# Altium schematic symbol library Schlib_WCH.SchLib: 17 symbols
Pins are listed as number, name and electrical type; pins without a type are passive.

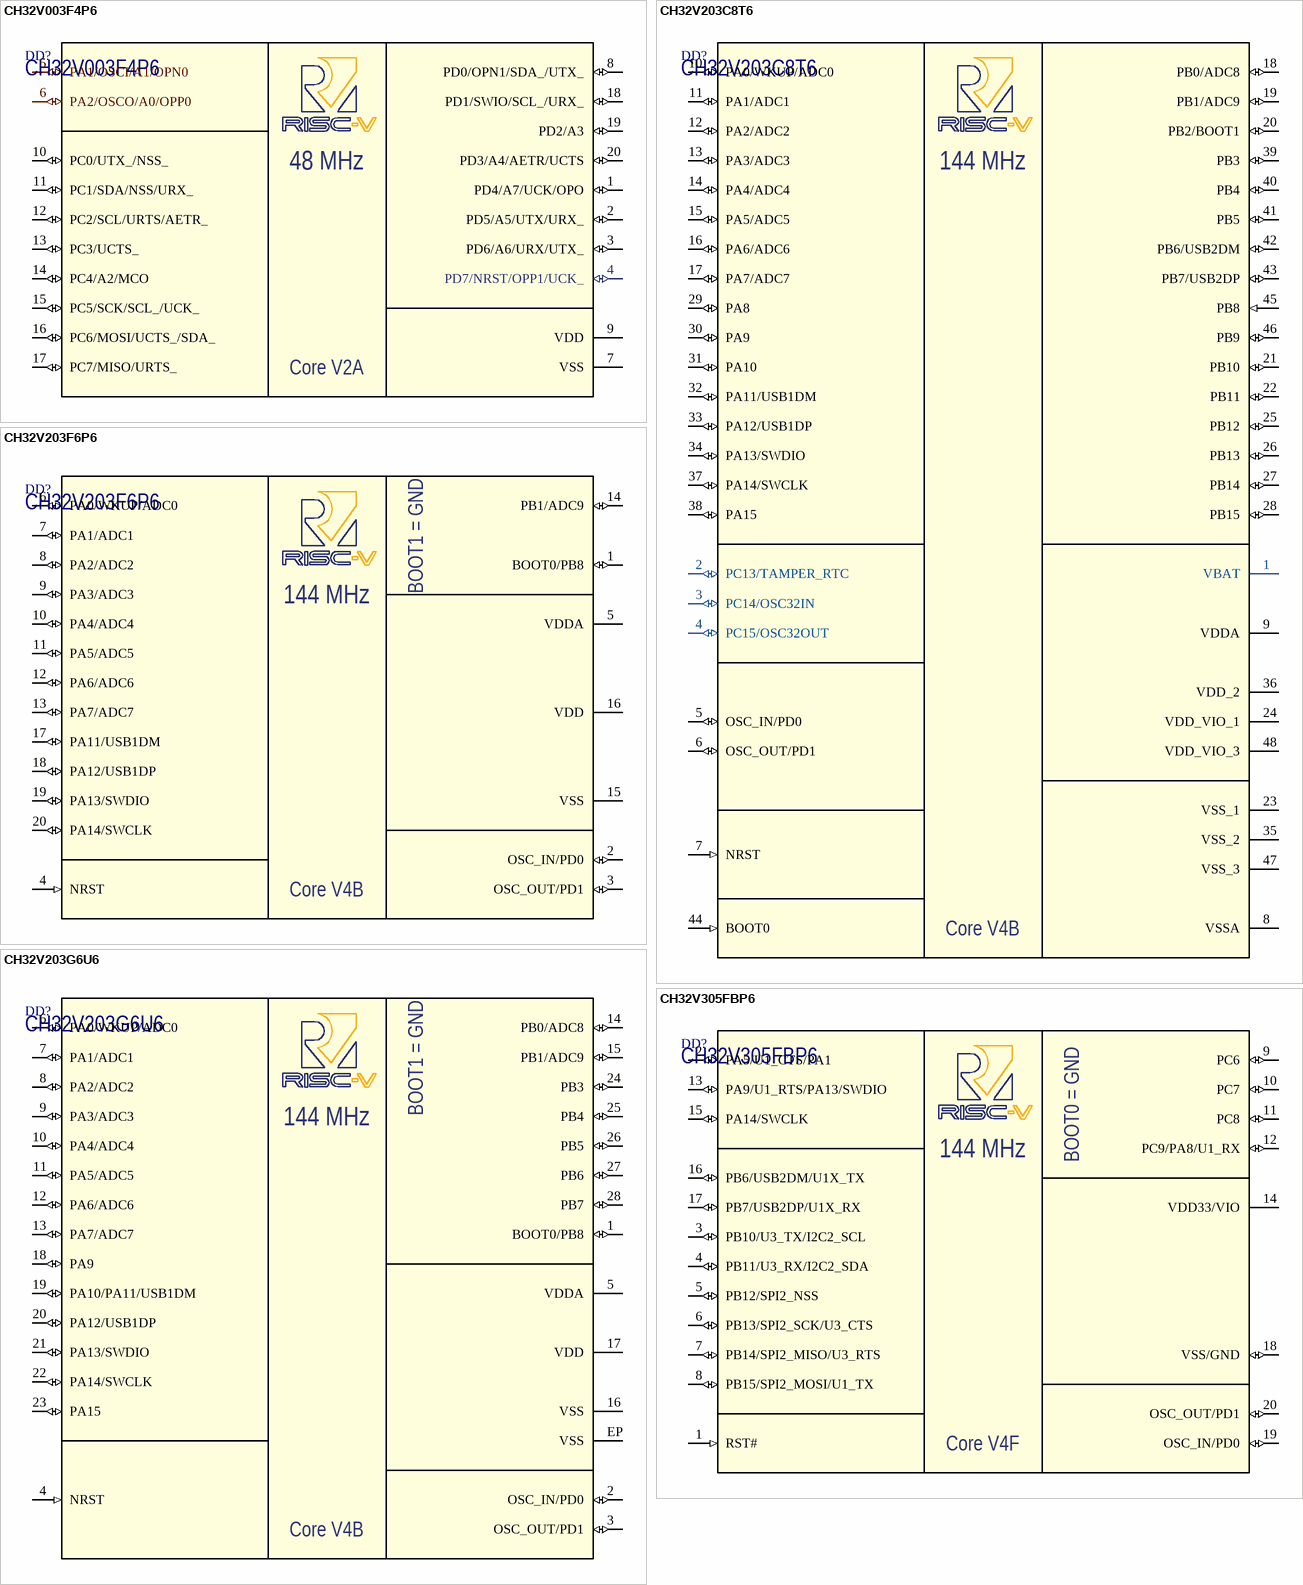
[diagram p0: symbols CH32V003F4P6 to CH32V305FBP6]

## CH32V003F4P6
designator DD?
RISC-V MCU 48MHz with 16KB flash, 2KB RAM; Manufacturer: WinChipHead; Package: TSSOP-20; Part Number: CH32V003F4P6
footprint TSSOP-20 (TSOP, 20-Leads, Body 6.50x4.40mm, Pitch 0.65mm, IPC Medium Density)
pins: 1 PD4/A7/UCK/OPO (io), 2 PD5/A5/UTX/URX_ (io), 3 PD6/A6/URX/UTX_ (io), 4 PD7/NRST/OPP1/UCK_ (io), 5 PA1/OSCI/A1/OPN0 (io), 6 PA2/OSCO/A0/OPP0 (io), 7 VSS (power), 8 PD0/OPN1/SDA_/UTX_ (io), 9 VDD (power), 10 PC0/UTX_/NSS_ (io), 11 PC1/SDA/NSS/URX_ (io), 12 PC2/SCL/URTS/AETR_ (io), 13 PC3/UCTS_ (io), 14 PC4/A2/MCO (io), 15 PC5/SCK/SCL_/UCK_ (io), 16 PC6/MOSI/UCTS_/SDA_ (io), 17 PC7/MISO/URTS_ (io), 18 PD1/SWIO/SCL_/URX_ (io), 19 PD2/A3 (io), 20 PD3/A4/AETR/UCTS (io)
text: 48 MHz; Core V2A

## CH32V203C8T6
designator DD?
RISC-V MCU 144MHz with 64KB flash, 20KB RAM; Manufacturer: WinChipHead; Package: LQFP-48; Part Number: CH32V203C8T6
footprint LQFP-48 (TSQFP, 48-Leads, Body 7,00x7,00mm, Pitch 0,50mm, IPC Medium Density)
pins: 1 VBAT (power), 2 PC13/TAMPER_RTC (io), 3 PC14/OSC32IN (io), 4 PC15/OSC32OUT (io), 5 OSC_IN/PD0 (io), 6 OSC_OUT/PD1 (io), 7 NRST (in), 8 VSSA (power), 9 VDDA (power), 10 PA0/WKUP/ADC0 (io), 11 PA1/ADC1 (io), 12 PA2/ADC2 (io), 13 PA3/ADC3 (io), 14 PA4/ADC4 (io), 15 PA5/ADC5 (io), 16 PA6/ADC6 (io), 17 PA7/ADC7 (io), 18 PB0/ADC8 (io), 19 PB1/ADC9 (io), 20 PB2/BOOT1 (io), 21 PB10 (io), 22 PB11 (io), 23 VSS_1 (power), 24 VDD_VIO_1 (power), 25 PB12 (io), 26 PB13 (io), 27 PB14 (io), 28 PB15 (io), 29 PA8 (io), 30 PA9 (io), 31 PA10 (io), 32 PA11/USB1DM (io), 33 PA12/USB1DP (io), 34 PA13/SWDIO (io), 35 VSS_2 (power), 36 VDD_2 (power), 37 PA14/SWCLK (io), 38 PA15 (io), 39 PB3 (io), 40 PB4 (io), 41 PB5 (io), 42 PB6/USB2DM (io), 43 PB7/USB2DP (io), 44 BOOT0 (in), 45 PB8 (in), 46 PB9 (io), 47 VSS_3 (power), 48 VDD_VIO_3 (power)
text: 144 MHz; Core V4B

## CH32V203F6P6
designator DD?
RISC-V MCU 144MHz with 32KB flash, 10KB RAM; Manufacturer: WinChipHead; Package: TSSOP-20; Part Number: CH32V203F6P6
footprint TSSOP-20 (TSOP, 20-Leads, Body 6.50x4.40mm, Pitch 0.65mm, IPC Medium Density)
pins: 1 BOOT0/PB8 (io), 2 OSC_IN/PD0 (io), 3 OSC_OUT/PD1 (io), 4 NRST (in), 5 VDDA (power), 6 PA0/WKUP/ADC0 (io), 7 PA1/ADC1 (io), 8 PA2/ADC2 (io), 9 PA3/ADC3 (io), 10 PA4/ADC4 (io), 11 PA5/ADC5 (io), 12 PA6/ADC6 (io), 13 PA7/ADC7 (io), 14 PB1/ADC9 (io), 15 VSS (power), 16 VDD (power), 17 PA11/USB1DM (io), 18 PA12/USB1DP (io), 19 PA13/SWDIO (io), 20 PA14/SWCLK (io)
text: BOOT1 = GND; 144 MHz; Core V4B

## CH32V203G6U6
designator DD?
RISC-V MCU 144MHz with 32KB flash, 10KB RAM; Manufacturer: WinChipHead; Package: QFN-28; Part Number: CH32V203G6U6
footprint QFN28_WCH (QFN 4mm x 4mm, 0.4mm pitch)
pins: 1 BOOT0/PB8 (io), 2 OSC_IN/PD0 (io), 3 OSC_OUT/PD1 (io), 4 NRST (in), 5 VDDA (power), 6 PA0/WKUP/ADC0 (io), 7 PA1/ADC1 (io), 8 PA2/ADC2 (io), 9 PA3/ADC3 (io), 10 PA4/ADC4 (io), 11 PA5/ADC5 (io), 12 PA6/ADC6 (io), 13 PA7/ADC7 (io), 14 PB0/ADC8 (io), 15 PB1/ADC9 (io), 16 VSS (power), 17 VDD (power), 18 PA9 (io), 19 PA10/PA11/USB1DM (io), 20 PA12/USB1DP (io), 21 PA13/SWDIO (io), 22 PA14/SWCLK (io), 23 PA15 (io), 24 PB3 (io), 25 PB4 (io), 26 PB5 (io), 27 PB6 (io), 28 PB7 (io), EP VSS (power)
text: BOOT1 = GND; 144 MHz; Core V4B

## CH32V305FBP6
designator DD?
RISC-V MCU 144MHz with 128KB flash, 32KB RAM; Manufacturer: WinChipHead; Package: TSSOP-20; Part Number: CH32V305FBP6
footprint TSSOP-20 (TSOP, 20-Leads, Body 6.50x4.40mm, Pitch 0.65mm, IPC Medium Density)
pins: 1 RST# (in), 2 PA5/U1_CTS/PA1 (io), 3 PB10/U3_TX/I2C2_SCL (io), 4 PB11/U3_RX/I2C2_SDA (io), 5 PB12/SPI2_NSS (io), 6 PB13/SPI2_SCK/U3_CTS (io), 7 PB14/SPI2_MISO/U3_RTS (io), 8 PB15/SPI2_MOSI/U1_TX (io), 9 PC6 (io), 10 PC7 (io), 11 PC8 (io), 12 PC9/PA8/U1_RX (io), 13 PA9/U1_RTS/PA13/SWDIO (io), 14 VDD33/VIO (power), 15 PA14/SWCLK (io), 16 PB6/USB2DM/U1X_TX (io), 17 PB7/USB2DP/U1X_RX (io), 18 VSS/GND (io), 19 OSC_IN/PD0 (io), 20 OSC_OUT/PD1 (io)
text: BOOT0 = GND; 144 MHz; Core V4F

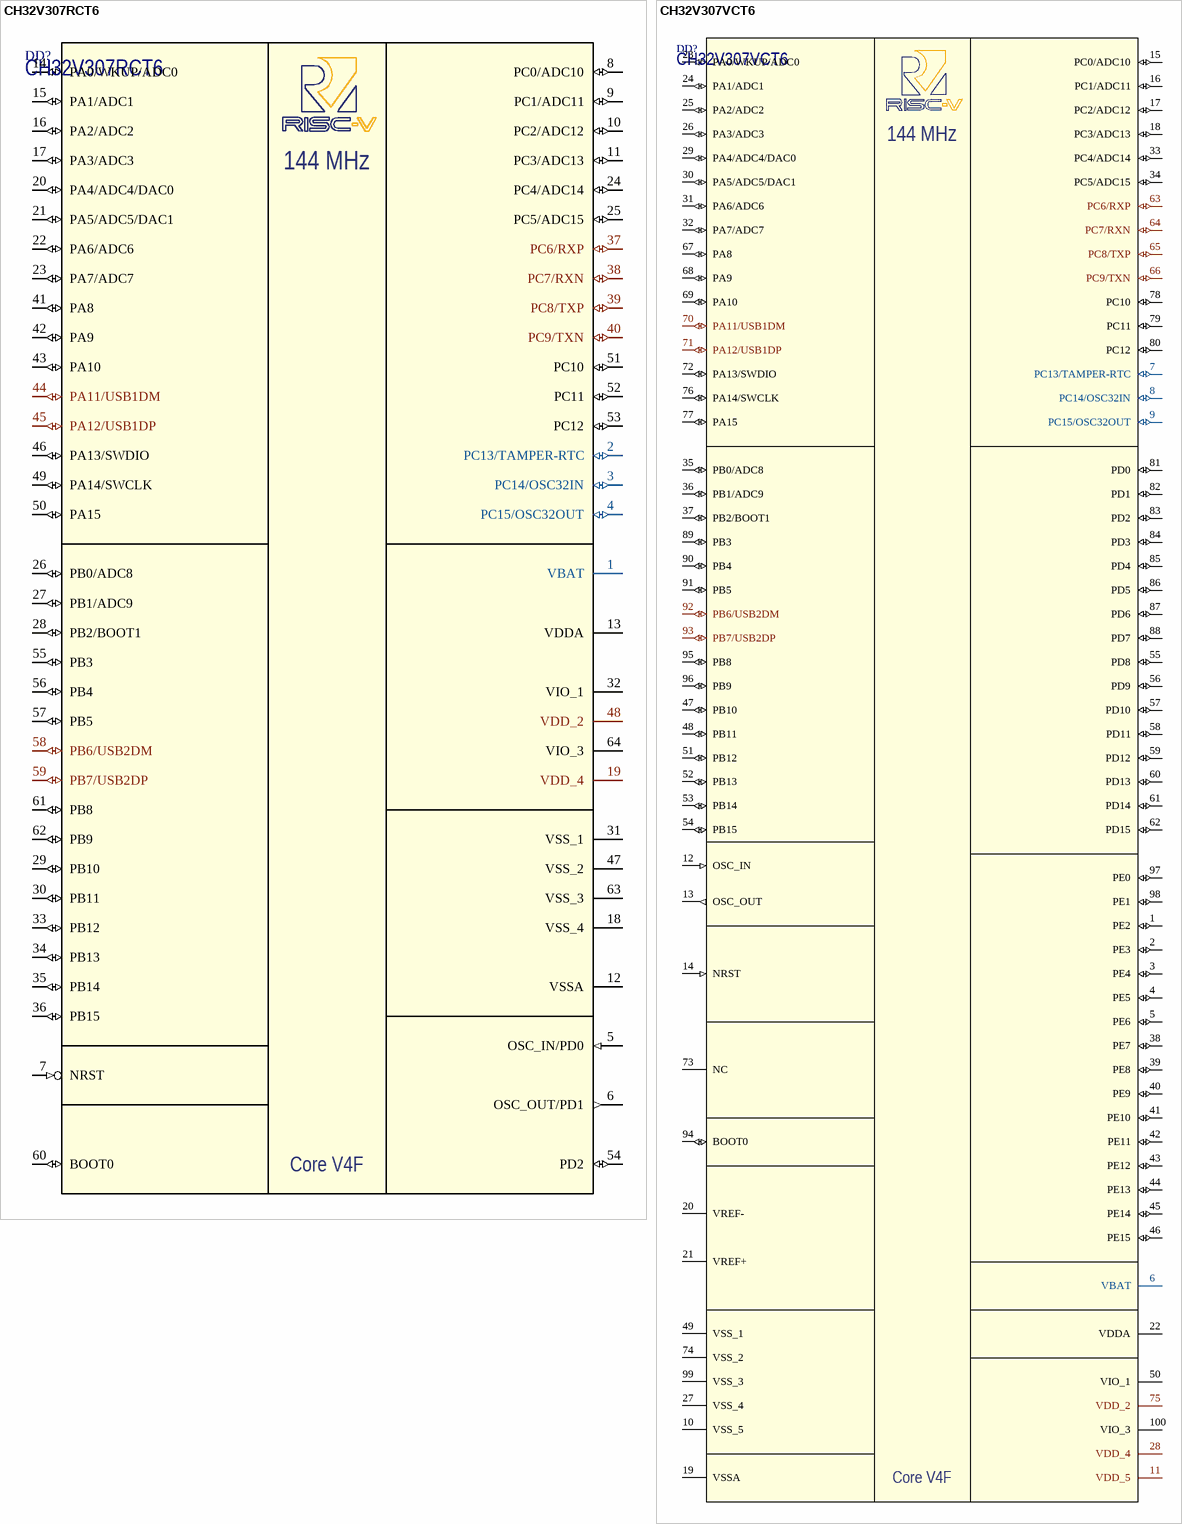
[diagram p1: symbols CH32V307RCT6 to CH32V307VCT6]

## CH32V307RCT6
designator DD?
RISC-V MCU 144MHz with 256KB flash, 64KB RAM; Manufacturer: WinChipHead; Package: LQFP-64; Part Number: CH32V307RCT6
footprint LQFP64M (WCH LQFP64M package with 0.5mm pitch)
pins: 1 VBAT (power), 2 PC13/TAMPER-RTC (io), 3 PC14/OSC32IN (io), 4 PC15/OSC32OUT (io), 5 OSC_IN/PD0 (in), 6 OSC_OUT/PD1 (out), 7 NRST (in), 8 PC0/ADC10 (io), 9 PC1/ADC11 (io), 10 PC2/ADC12 (io), 11 PC3/ADC13 (io), 12 VSSA (power), 13 VDDA (power), 14 PA0/WKUP/ADC0 (io), 15 PA1/ADC1 (io), 16 PA2/ADC2 (io), 17 PA3/ADC3 (io), 18 VSS_4 (power), 19 VDD_4 (power), 20 PA4/ADC4/DAC0 (io), 21 PA5/ADC5/DAC1 (io), 22 PA6/ADC6 (io), 23 PA7/ADC7 (io), 24 PC4/ADC14 (io), 25 PC5/ADC15 (io), 26 PB0/ADC8 (io), 27 PB1/ADC9 (io), 28 PB2/BOOT1 (io), 29 PB10 (io), 30 PB11 (io), 31 VSS_1 (power), 32 VIO_1 (power), 33 PB12 (io), 34 PB13 (io), 35 PB14 (io), 36 PB15 (io), 37 PC6/RXP (io), 38 PC7/RXN (io), 39 PC8/TXP (io), 40 PC9/TXN (io), 41 PA8 (io), 42 PA9 (io), 43 PA10 (io), 44 PA11/USB1DM (io), 45 PA12/USB1DP (io), 46 PA13/SWDIO (io), 47 VSS_2 (power), 48 VDD_2 (power), 49 PA14/SWCLK (io), 50 PA15 (io), 51 PC10 (io), 52 PC11 (io), 53 PC12 (io), 54 PD2 (io), 55 PB3 (io), 56 PB4 (io), 57 PB5 (io), 58 PB6/USB2DM (io), 59 PB7/USB2DP (io), 60 BOOT0 (io), 61 PB8 (io), 62 PB9 (io), 63 VSS_3 (power), 64 VIO_3 (power)
text: 144 MHz; Core V4F

## CH32V307VCT6
designator DD?
RISC-V MCU 144MHz with 256KB flash, 64KB RAM; Manufacturer: WinChipHead; Package: LQFP-100; Part Number: CH32V307VCT6
footprint LQFP-100 (TSQFP, 100-Leads, Body 14,00x14,00mm, Pitch 0,50mm, IPC Medium Density)
pins: 1 PE2 (io), 2 PE3 (io), 3 PE4 (io), 4 PE5 (io), 5 PE6 (io), 6 VBAT (power), 7 PC13/TAMPER-RTC (io), 8 PC14/OSC32IN (io), 9 PC15/OSC32OUT (io), 10 VSS_5 (power), 11 VDD_5 (power), 12 OSC_IN (in), 13 OSC_OUT (out), 14 NRST (in), 15 PC0/ADC10 (io), 16 PC1/ADC11 (io), 17 PC2/ADC12 (io), 18 PC3/ADC13 (io), 19 VSSA (power), 20 VREF-, 21 VREF+, 22 VDDA (power), 23 PA0/WKUP/ADC0 (io), 24 PA1/ADC1 (io), 25 PA2/ADC2 (io), 26 PA3/ADC3 (io), 27 VSS_4 (power), 28 VDD_4 (power), 29 PA4/ADC4/DAC0 (io), 30 PA5/ADC5/DAC1 (io), 31 PA6/ADC6 (io), 32 PA7/ADC7 (io), 33 PC4/ADC14 (io), 34 PC5/ADC15 (io), 35 PB0/ADC8 (io), 36 PB1/ADC9 (io), 37 PB2/BOOT1 (io), 38 PE7 (io), 39 PE8 (io), 40 PE9 (io), 41 PE10 (io), 42 PE11 (io), 43 PE12 (io), 44 PE13 (io), 45 PE14 (io), 46 PE15 (io), 47 PB10 (io), 48 PB11 (io), 49 VSS_1 (power), 50 VIO_1 (power), 51 PB12 (io), 52 PB13 (io), 53 PB14 (io), 54 PB15 (io), 55 PD8 (io), 56 PD9 (io), 57 PD10 (io), 58 PD11 (io), 59 PD12 (io), 60 PD13 (io), 61 PD14 (io), 62 PD15 (io), 63 PC6/RXP (io), 64 PC7/RXN (io), 65 PC8/TXP (io), 66 PC9/TXN (io), 67 PA8 (io), 68 PA9 (io), 69 PA10 (io), 70 PA11/USB1DM (io), 71 PA12/USB1DP (io), 72 PA13/SWDIO (io), 73 NC (hiz), 74 VSS_2 (power), 75 VDD_2 (power), 76 PA14/SWCLK (io), 77 PA15 (io), 78 PC10 (io), 79 PC11 (io), 80 PC12 (io), 81 PD0 (io), 82 PD1 (io), 83 PD2 (io), 84 PD3 (io), 85 PD4 (io), 86 PD5 (io), 87 PD6 (io), 88 PD7 (io), 89 PB3 (io), 90 PB4 (io), 91 PB5 (io), 92 PB6/USB2DM (io), 93 PB7/USB2DP (io), 94 BOOT0 (io), 95 PB8 (io), 96 PB9 (io), 97 PE0 (io), 98 PE1 (io), 99 VSS_3 (power), 100 VIO_3 (power)
text: 144 MHz; Core V4F

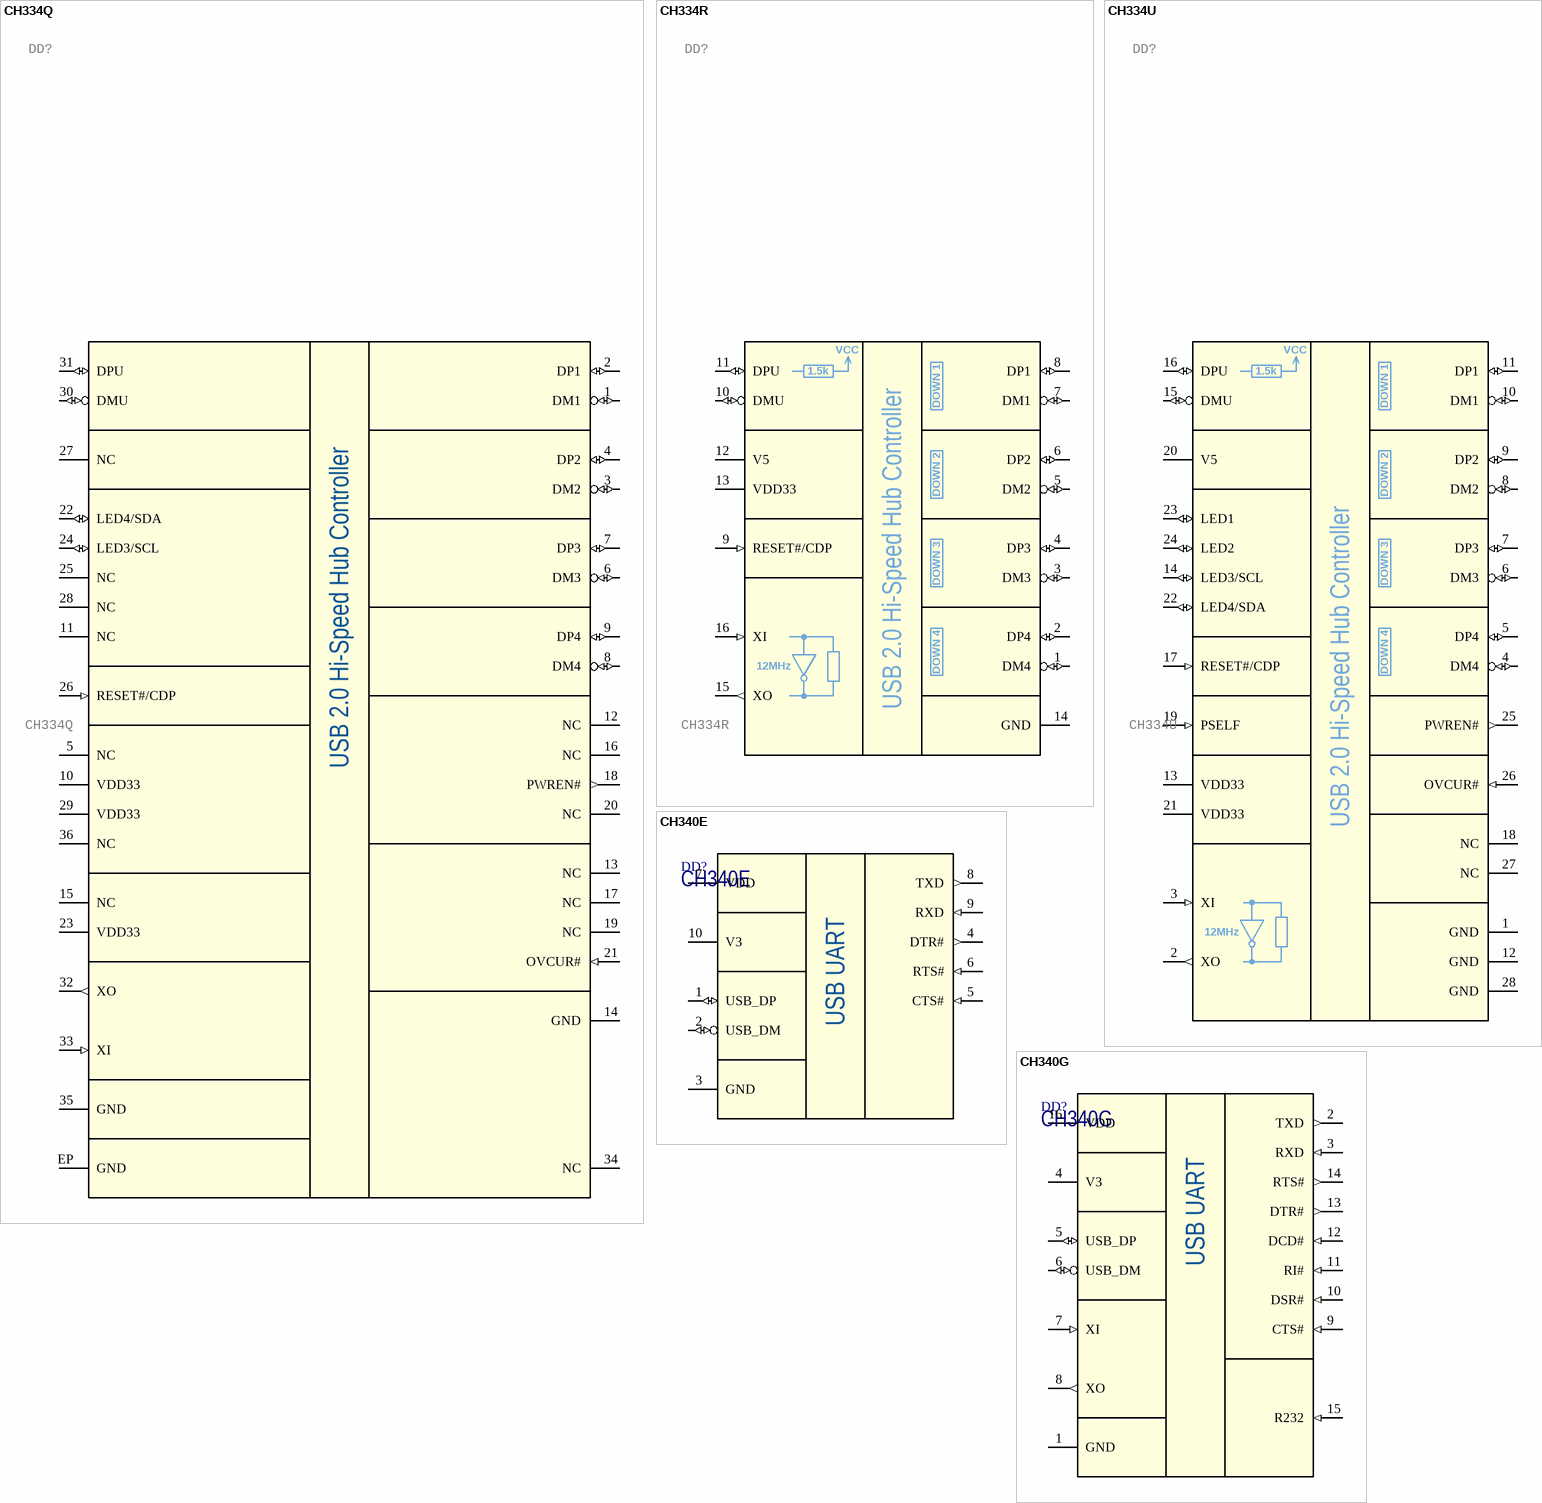
[diagram p2: symbols CH334Q to CH340G]

## CH334Q
designator DD?
USB 2.0 MMT Hi-Speed 4-port Hub Controller; Manufacturer: WinChipHead; Part Number: CH334Q; Package: QFN-36
footprint QFN36_WCH (QFN-36 with 0.5mm pitch)
pins: 1 DM1 (io), 2 DP1 (io), 3 DM2 (io), 4 DP2 (io), 5 NC (hiz), 6 DM3 (io), 7 DP3 (io), 8 DM4 (io), 9 DP4 (io), 10 VDD33 (power), 11 NC (hiz), 12 NC (hiz), 13 NC (hiz), 14 GND (power), 15 NC (hiz), 16 NC (hiz), 17 NC (hiz), 18 PWREN# (out), 19 NC (hiz), 20 NC (hiz), 21 OVCUR# (in), 22 LED4/SDA (io), 23 VDD33 (power), 24 LED3/SCL (io), 25 NC (hiz), 26 RESET#/CDP (in), 27 NC (hiz), 28 NC (hiz), 29 VDD33 (power), 30 DMU (io), 31 DPU (io), 32 XO (out), 33 XI (in), 34 NC (hiz), 35 GND (power), 36 NC (hiz), EP GND (power)
text: USB 2.0 Hi-Speed Hub Controller

## CH334R
designator DD?
USB 2.0 MMT Hi-Speed 4-port Hub Controller; Manufacturer: WinChipHead; Part Number: CH334R; Package: QSOP-16
footprint QSOP16_WCH (QSOP-16 with 0.635mm pitch)
pins: 1 DM4 (io), 2 DP4 (io), 3 DM3 (io), 4 DP3 (io), 5 DM2 (io), 6 DP2 (io), 7 DM1 (io), 8 DP1 (io), 9 RESET#/CDP (in), 10 DMU (io), 11 DPU (io), 12 V5 (power), 13 VDD33 (power), 14 GND (power), 15 XO (out), 16 XI (in)
text: VCC; 1.5k; DOWN 1; DOWN 2; USB 2.0 Hi-Speed Hub Controller; DOWN 3; DOWN 4; 12MHz

## CH334U
designator DD?
USB 2.0 MMT Hi-Speed 4-port Hub Controller; Manufacturer: WinChipHead; Part Number: CH334U; Package: QSOP-28
footprint QSOP28_WCH (QSOP-28 with 0.635mm pitch)
pins: 1 GND (power), 2 XO (out), 3 XI (in), 4 DM4 (io), 5 DP4 (io), 6 DM3 (io), 7 DP3 (io), 8 DM2 (io), 9 DP2 (io), 10 DM1 (io), 11 DP1 (io), 12 GND (power), 13 VDD33 (power), 14 LED3/SCL (io), 15 DMU (io), 16 DPU (io), 17 RESET#/CDP (in), 18 NC (hiz), 19 PSELF (in), 20 V5 (power), 21 VDD33 (power), 22 LED4/SDA (io), 23 LED1 (io), 24 LED2 (io), 25 PWREN# (out), 26 OVCUR# (in), 27 NC (hiz), 28 GND (power)
text: VCC; 1.5k; DOWN 1; DOWN 2; DOWN 3; DOWN 4; USB 2.0 Hi-Speed Hub Controller; 12MHz

## CH340E
designator DD?
USB to Serial Port Chip; Manufacturer: WinChipHead; Package: MSOP-10; Part Number: CH340E
footprint MSOP-10 (TSOP, 8-Leads, Body 3.00x3.00mm, Pitch 0.65mm, IPC Medium Density)
pins: 1 USB_DP (io), 2 USB_DM (io), 3 GND (power), 4 DTR# (out), 5 CTS# (in), 6 RTS# (in), 7 VDD (power), 8 TXD (out), 9 RXD (in), 10 V3 (power)
text: USB UART

## CH340G
designator DD?
USB to Serial Port Chip; Manufacturer: WinChipHead; Package: SO-16; Part Number: CH340G
footprint SOIC-16 (package SOIC-16, 150 mil)
pins: 1 GND (power), 2 TXD (out), 3 RXD (in), 4 V3 (power), 5 USB_DP (io), 6 USB_DM (io), 7 XI (in), 8 XO (out), 9 CTS# (in), 10 DSR# (in), 11 RI# (in), 12 DCD# (in), 13 DTR# (out), 14 RTS# (out), 15 R232 (in), 16 VDD (power)
text: USB UART

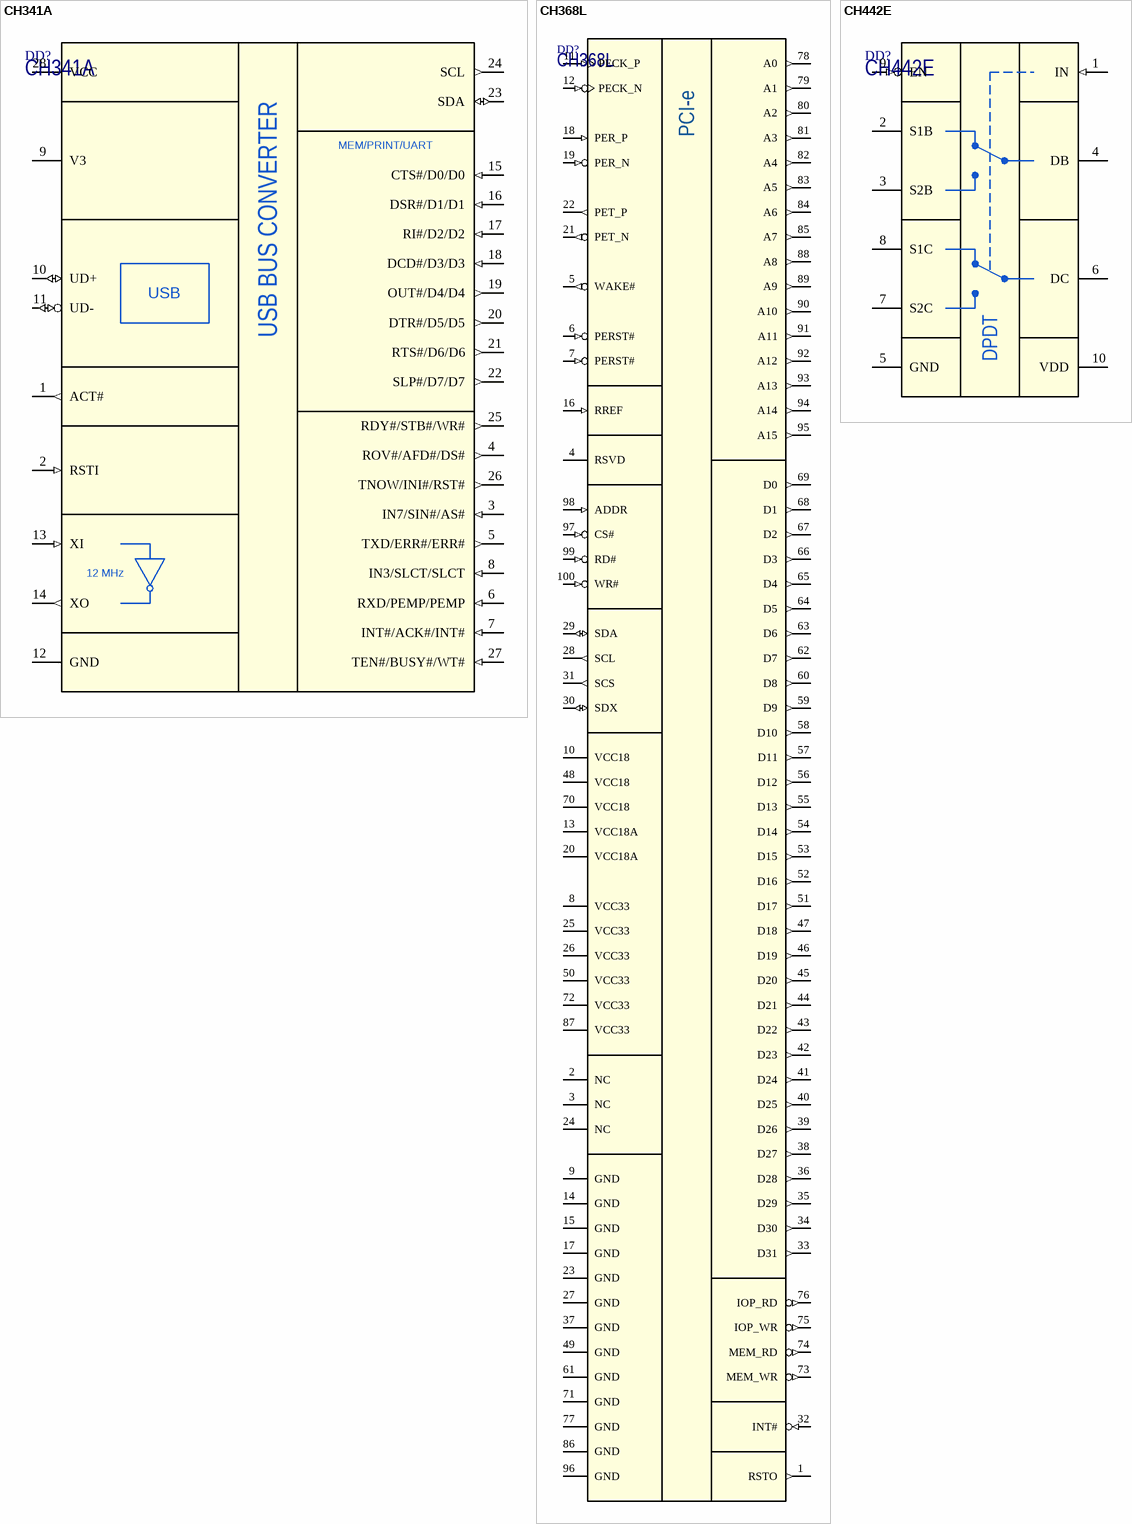
[diagram p3: symbols CH341A to CH442E]

## CH341A
designator DD?
USB Bus Converter; Manufacturer: WinChipHead; Package: SOP-28; Part Number: CH341A
footprint SOP-28_WCH (SOP-28, 300 mil)
pins: 1 ACT# (out), 2 RSTI (in), 3 IN7/SIN#/AS# (in), 4 ROV#/AFD#/DS# (out), 5 TXD/ERR#/ERR# (out), 6 RXD/PEMP/PEMP (in), 7 INT#/ACK#/INT# (in), 8 IN3/SLCT/SLCT (in), 9 V3, 10 UD+ (io), 11 UD- (io), 12 GND (power), 13 XI (in), 14 XO (out), 15 CTS#/D0/D0 (in), 16 DSR#/D1/D1 (in), 17 RI#/D2/D2 (in), 18 DCD#/D3/D3 (in), 19 OUT#/D4/D4 (out), 20 DTR#/D5/D5 (out), 21 RTS#/D6/D6 (out), 22 SLP#/D7/D7 (out), 23 SDA (io), 24 SCL (out), 25 RDY#/STB#/WR# (out), 26 TNOW/INI#/RST# (out), 27 TEN#/BUSY#/WT# (in), 28 VCC (power)
text: MEM/PRINT/UART; USB BUS CONVERTER; USB; 12 MHz

## CH368L
designator DD?
PCI-e Bus Interface Chip; Manufacturer: WinChipHead; Package: LQFP-100; Part Number: CH368L
footprint LQFP-100 (TSQFP, 100-Leads, Body 14,00x14,00mm, Pitch 0,50mm, IPC Medium Density)
pins: 1 RSTO (out), 2 NC (hiz), 3 NC (hiz), 4 RSVD (hiz), 5 WAKE# (out), 6 PERST# (in), 7 PERST# (in), 8 VCC33 (power), 9 GND (power), 10 VCC18 (power), 11 PECK_P (in), 12 PECK_N (in), 13 VCC18A (power), 14 GND (power), 15 GND (power), 16 RREF (in), 17 GND (power), 18 PER_P (in), 19 PER_N (in), 20 VCC18A (power), 21 PET_N (out), 22 PET_P (out), 23 GND (power), 24 NC (hiz), 25 VCC33 (power), 26 VCC33 (power), 27 GND (power), 28 SCL (out), 29 SDA (io), 30 SDX (io), 31 SCS (out), 32 INT# (in), 33 D31 (out), 34 D30 (out), 35 D29 (out), 36 D28 (out), 37 GND (power), 38 D27 (out), 39 D26 (out), 40 D25 (out), 41 D24 (out), 42 D23 (out), 43 D22 (out), 44 D21 (out), 45 D20 (out), 46 D19 (out), 47 D18 (out), 48 VCC18 (power), 49 GND (power), 50 VCC33 (power), 51 D17 (out), 52 D16 (out), 53 D15 (out), 54 D14 (out), 55 D13 (out), 56 D12 (out), 57 D11 (out), 58 D10 (out), 59 D9 (out), 60 D8 (out), 61 GND (power), 62 D7 (out), 63 D6 (out), 64 D5 (out), 65 D4 (out), 66 D3 (out), 67 D2 (out), 68 D1 (out), 69 D0 (out), 70 VCC18 (power), 71 GND (power), 72 VCC33 (power), 73 MEM_WR (out), 74 MEM_RD (out), 75 IOP_WR (out), 76 IOP_RD (out), 77 GND (power), 78 A0 (out), 79 A1 (out), 80 A2 (out), 81 A3 (out), 82 A4 (out), 83 A5 (out), 84 A6 (out), 85 A7 (out), 86 GND (power), 87 VCC33 (power), 88 A8 (out), 89 A9 (out), 90 A10 (out), 91 A11 (out), 92 A12 (out), 93 A13 (out), 94 A14 (out), 95 A15 (out), 96 GND (power), 97 CS# (in), 98 ADDR (in), 99 RD# (in), 100 WR# (in)
text: PCI-e

## CH442E
designator DD?
Double-pole Double-throw Low-Resistance Analog Switch IC; Manufacturer: WinChipHead; Package: MSOP-10; Part Number: CH442E
footprint MSOP-10 (TSOP, 8-Leads, Body 3.00x3.00mm, Pitch 0.65mm, IPC Medium Density)
pins: 1 IN (in), 2 S1B, 3 S2B, 4 DB, 5 GND (power), 6 DC, 7 S2C, 8 S1C, 9 EN (in), 10 VDD (power)
text: DPDT

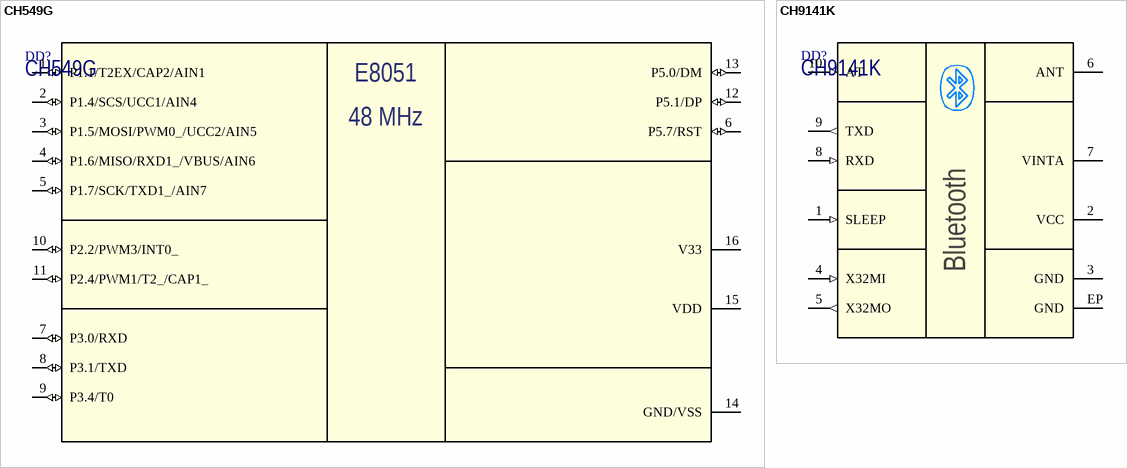
[diagram p4: symbols CH549G to CH9141K]

## CH549G
designator DD?
8-bit Enhanced USB MCU; Manufacturer: WinChipHead; Package: SOP16; Part Number: CH549G
footprint SOIC-16 (package SOIC-16, 150 mil)
pins: 1 P1.1/T2EX/CAP2/AIN1 (io), 2 P1.4/SCS/UCC1/AIN4 (io), 3 P1.5/MOSI/PWM0_/UCC2/AIN5 (io), 4 P1.6/MISO/RXD1_/VBUS/AIN6 (io), 5 P1.7/SCK/TXD1_/AIN7 (io), 6 P5.7/RST (io), 7 P3.0/RXD (io), 8 P3.1/TXD (io), 9 P3.4/T0 (io), 10 P2.2/PWM3/INT0_ (io), 11 P2.4/PWM1/T2_/CAP1_ (io), 12 P5.1/DP (io), 13 P5.0/DM (io), 14 GND/VSS (power), 15 VDD (power), 16 V33 (power)
text: E8051; 48 MHz

## CH9141K
designator DD?
BLE and UART Bidirectional Transparent Transmission chip; Manufacturer: WinChipHead; Package: ESSOP-10; Part Number: CH9141K
footprint ESSOP-10 (package SOP-10, 1mm pitch)
pins: 1 SLEEP (in), 2 VCC (power), 3 GND (power), 4 X32MI (in), 5 X32MO (out), 6 ANT, 7 VINTA (power), 8 RXD (in), 9 TXD (out), 10 AT (in), EP GND (power)
text: Bluetooth